# EAGLE library part IAQ-CORE (library SEELAB)
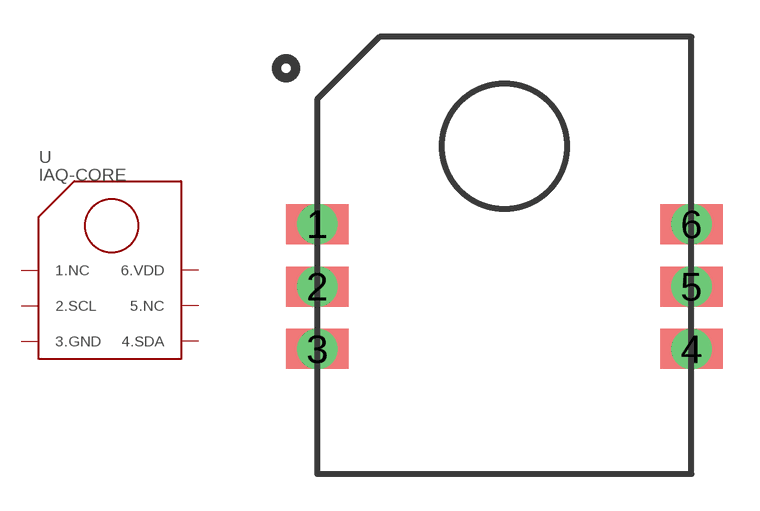
[diagram p0: symbol with the pads of IAQ-CORE; footprint IAQ-CORE]

Designator prefix U

## IAQ-CORE  [IAQ-CORE]
1  1.NC  nc
2  2.SCL
3  3.GND  pwr
4  4.SDA
5  5.NC  nc
6  6.VDD  pwr

## Footprint IAQ-CORE (pad centres in mm)
drill 1.092 pad 1.6: 1 -7.62,2.54; 2 -7.62,0; 3 -7.62,-2.54; 4 7.62,-2.54; 5 7.62,0; 6 7.62,2.54